# Altium footprint library CAP-CER2.PcbLib: 1 footprints
Each footprint in its own frame and in the unit in brackets; x right, y up, seen from the top. Pads: shape width x height; smd on the part's side, far side on the other; paste and mask are expansions set on the pad; w line width, h text height; cw(c..) or ccw(c..) is an arc to the next point about the centre after c.
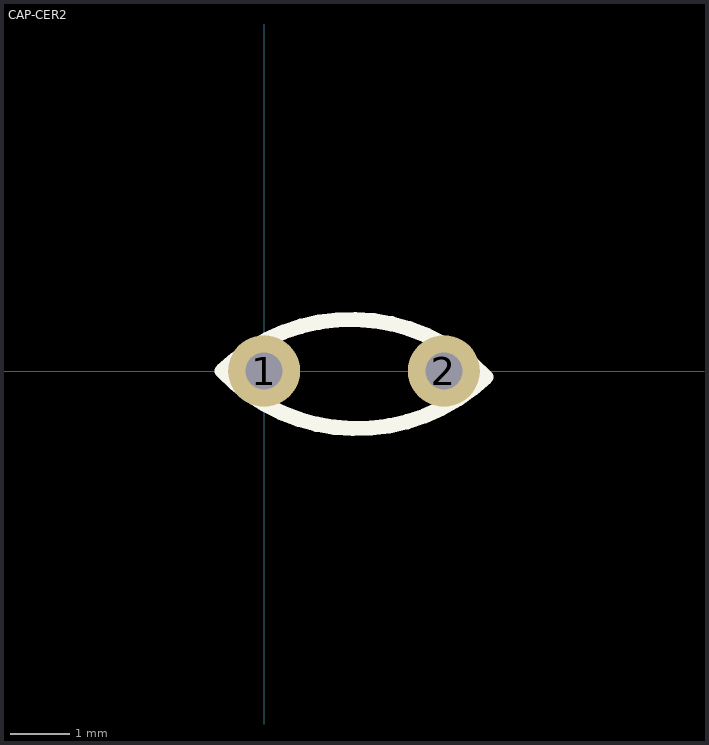
[diagram p0: the footprint, top view; thin cyan lines are the x and y axes]

## CAP-CER2 [mm]
pads (2):
  round 1.2 hole 0.62: 1(0,0) 2(3,0)
Top Overlay:
  lines w0.254: -0.7,0 ccw(c1.55,2.15) 3.7,-0.1 ccw(c1.45,-2.25) -0.7,0